# EAGLE library part NAR131SB (library BillPorter)
LED 7SEG DISP .30" RED CA BLACK 7 Segment display by Stanely Electric, digikey part number 404-1118-ND for red
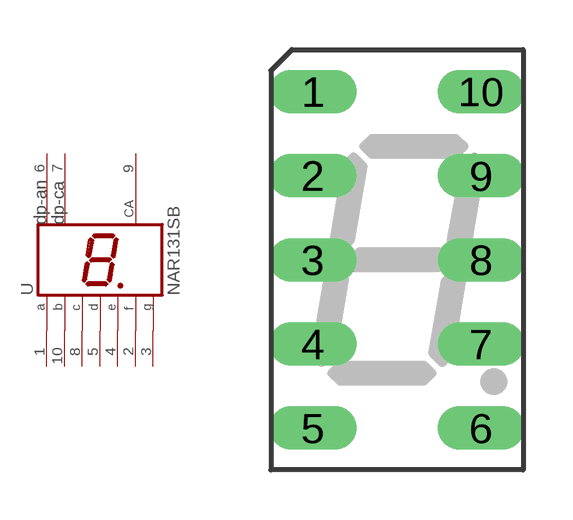
[diagram p7: symbol with the pads of 7-SEG-DIS; footprint 7-SEG-DIS]

Designator prefix -

## NAR131SB  [7-SEG-DIS]
1  A  pas
2  F  pas
3  G  pas
4  E  pas
5  D  pas
6  DP-AN  pas
7  DP-CA  pas
8  C  pas
9  CA  pas
10  B  pas

## Footprint 7-SEG-DIS (pad centres in mm)
drill 0.813 long: 1 -2.54,5.08; 2 -2.54,2.54; 3 -2.54,0; 4 -2.54,-2.54; 5 -2.54,-5.08; 6 2.54,-5.08; 7 2.54,-2.54; 8 2.54,0; 9 2.54,2.54; 10 2.54,5.08